# Altium footprint library PCB - OPTOISOLATOR - LITE-ON 6N137S.PcbLib: 1 footprints
Each footprint in its own frame and in the unit in brackets; x right, y up, seen from the top. Pads: shape width x height; smd on the part's side, far side on the other; paste and mask are expansions set on the pad; w line width, h text height; cw(c..) or ccw(c..) is an arc to the next point about the centre after c.
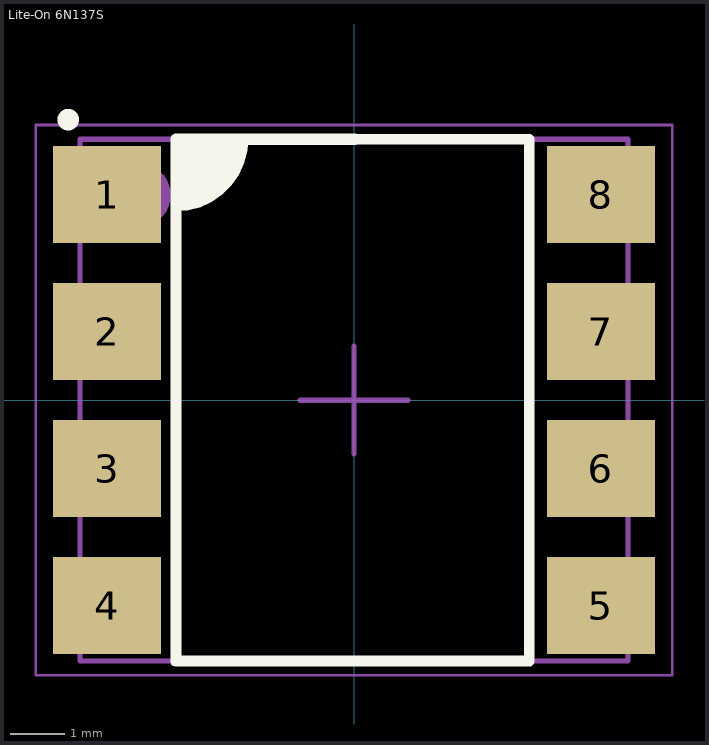
[diagram p0: the footprint, top view; thin cyan lines are the x and y axes]

## Lite-On 6N137S [mm] "Logic Output Optoisolator 15MBd Open Collector 5000Vrms, 2.54mm Pitch, 9.68x6.5 mm Body, 8-SMD Package"
height 4.6
pads (8):
  rect 2x1.8 smd: 1(-4.58,3.81) 2(-4.58,1.27) 3(-4.58,-1.27) 4(-4.58,-3.81) 5(4.58,-3.81) 6(4.58,-1.27) 7(4.58,1.27) 8(4.58,3.81)
Top Overlay:
  circle w0.2: c-5.3,5.2 r0.1
  region: -3.3,4.938 -3.32,4.938 -3.357,4.923 -3.385,4.895 -3.4,4.858 -3.4,4.838 -3.4,-4.838 -3.4,-4.858 -3.385,-4.895 -3.357,-4.923 -3.32,-4.938 -3.3,-4.938 -3.28,-4.938 -3.243,-4.923 -3.215,-4.895 -3.2,-4.858 -3.2,-4.838 -3.2,3.512 -3.082,3.521 -2.852,3.58 -2.637,3.679 -2.443,3.814 -2.276,3.981 -2.141,4.175 -2.042,4.391 -1.983,4.62 -1.974,4.738 0,4.738 0.042,4.738 0.1,4.797 0.1,4.88 0.042,4.938 0,4.938
  lines w0.2: -3.3,3.608 ccw(c-3.3,4.838) -2.071,4.802 ; -3.3,-4.838 0,-4.838 3.25,-4.838 3.25,4.838 0,4.838 -3.3,4.838 -3.3,-4.838
Mechanical 13:
  circle w0.2: c-4,3.8 r0.5
  lines w0.1: -5.08,-4.838 -5.08,4.838 5.08,4.838 5.08,-4.838 -5.08,-4.838
Mechanical 15 (Mech15):
  lines w0.05: -5.9,-5.1 5.9,-5.1 5.9,5.1 -5.9,5.1 -5.9,-5.1
  lines w0.1: -1,0 0,0 ; 0,-1 0,0 ; 0,1 0,0 ; 1,0 0,0
3D body "Lite-On - SMD-8 v3.step": height 4.8, standoff 0, extent -5.08,-4.838 5.08,4.838